# Altium footprint library OperacionesLogicasPCB_L.PcbLib: 10 footprints
Each footprint in its own frame and in the unit in brackets; x right, y up, seen from the top. Pads: shape width x height; smd on the part's side, far side on the other; paste and mask are expansions set on the pad; w line width, h text height; cw(c..) or ccw(c..) is an arc to the next point about the centre after c.
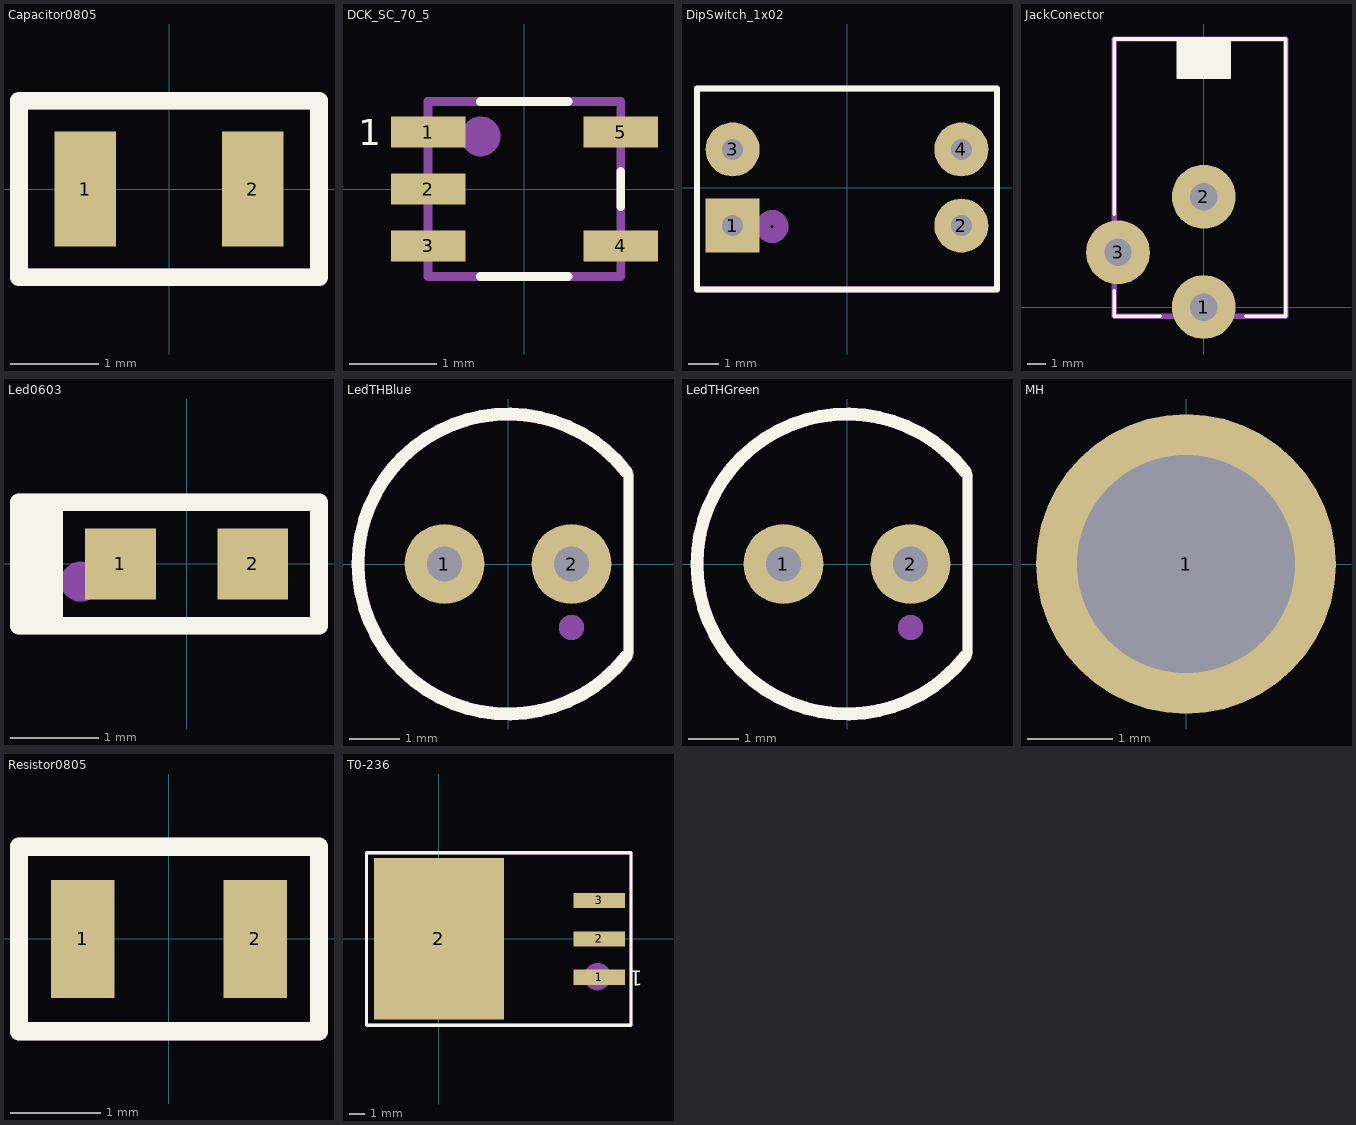
[diagram p0: the footprints below, top view; thin cyan lines are the x and y axes]

## Capacitor0805 [mm]
pads (2):
  rect 0.7x1.3 smd: 1(-0.95,0) 2(0.95,0)
Top Overlay:
  lines w0.2: -1.7,-1 1.7,-1 1.7,1 -1.7,1 -1.7,-1
Mechanical 29:
  lines w0.2: -1.7,-1 1.7,-1 1.7,1 -1.7,1 -1.7,-1
  text "'.Designator'" at -1.6,-0.2 h0.5
3D body "CAP0805.step": height 1.25, standoff 0, extent -1,-0.625 1,0.625

## DCK_SC_70_5 [mm]
pads (5):
  rect 0.85x0.35 smd: 1(-1.1,0.65) 2(-1.1,0) 3(-1.1,-0.65) 4(1.1,-0.65) 5(1.1,0.65)
Top Overlay:
  lines w0.1: -0.5,-1 0.5,-1 ; -0.5,1 0.5,1 ; 1.1,-0.2 1.1,0.2
  text "1" at -1.9,0.5 h0.3
Mechanical 29:
  circle w0.254: c-0.5,0.6 r0.1
  lines w0.1: -1.1,-1 1.1,-1 1.1,1 -1.1,1 -1.1,-1
  text "'.Designator'" at -2,-0.3 h0.5
3D body "DCK_SC70-5.STEP": height 0.91, standoff -0.06, extent -1.1,-1 1.1,1

## DipSwitch_1x02 [mm]
pads (4):
  rect 1.8x1.8 hole 0.7: 1(-3.81,-1.27)
  round 1.8 hole 0.7: 2(3.81,-1.27) 3(-3.81,1.27) 4(3.81,1.27)
Top Overlay:
  lines w0.2: -5,-3.4 -5,3.3 5,3.3 5,-3.4 -5,-3.4
Mechanical 29:
  circle w0.5: c-2.5,-1.3 r0.3
  lines w0.2: -5,-3.4 -5,3.3 5,3.3 5,-3.4 -5,-3.4
  text "'.Designator'" at 0.3,-4.2 h1
3D body "DipSwitch_02p.step": height 6.8, standoff -3.85, extent -4.95,-3.27 4.95,3.27

## JackConector [mm]
pads (3):
  round 3.5 hole 1.5: 1(0,0) 2(0,6.05) 3(-4.7,3)
Top Overlay:
  rectangle: -1.5,12.5 1.5,14.7
  lines w0.2: -4.9,0.9 -4.9,-0.5 -2.4,-0.5 ; -4.9,5.1 -4.9,14.7 4.5,14.7 4.5,-0.5 2.3,-0.5
Mechanical 1:
  lines w0.2: -4.9,-0.5 4.5,-0.5 4.5,14.7 -4.9,14.7 -4.9,-0.5
Mechanical 29:
  lines w0.3: -4.9,-0.5 -4.9,14.7 4.5,14.7 4.5,-0.5 -4.9,-0.5
  text "'.Designator'" at -2.9,5.3 h1
3D body "JackConectorDC.step": height 11.01, standoff -3.49, extent -4.9,-0.5 4.5,14.7

## Led0603 [mm]
pads (2):
  rect 0.8x0.8 smd: 1(-0.75,0) 2(0.75,0)
Top Overlay:
  rectangle: -1.9,-0.7 -1.4,0.7
  lines w0.2: -1.9,-0.7 1.5,-0.7 1.5,0.7 -1.9,0.7 -1.9,-0.7
Mechanical 29:
  circle w0.254: c-1.2,-0.2 r0.1
  lines w0.2: -1.9,-0.7 1.5,-0.7 1.5,0.7 -1.9,0.7 -1.9,-0.7
  text "'.Designator'" at -1.9,-0.3 h0.8
3D body "LedSMD0603G.step": height 0.81, standoff -0.02, extent -0.83,-0.4 0.83,0.4

## LedTHBlue [mm]
pads (2):
  round 1.6 hole 0.7: 1(-1.27,0) 2(1.27,0)
Top Overlay:
  lines w0.2: 2.413,-1.778 2.413,1.778
  lines w0.254: 2.364,-1.847 cw(c0,0) 2.364,1.847
Mechanical 29:
  circle w0.254: c1.27,-1.27 r0.127
  lines w0.2: 2.413,-1.778 2.413,1.778
  lines w0.254: 2.362,-1.845 cw(c0,0) 2.362,1.845
  text "'.Designator'" at -3.302,-0.127 h1
3D body "Led5mmB.step": height 8.72, standoff -2.98, extent -2.9,-2.9 2.5,2.9

## LedTHGreen [mm]
pads (2):
  round 1.6 hole 0.7: 1(-1.27,0) 2(1.27,0)
Top Overlay:
  lines w0.2: 2.413,-1.778 2.413,1.778
  lines w0.254: 2.364,-1.847 cw(c0,0) 2.364,1.847
Mechanical 29:
  circle w0.254: c1.27,-1.27 r0.127
  lines w0.2: 2.413,-1.778 2.413,1.778
  lines w0.254: 2.362,-1.845 cw(c0,0) 2.362,1.845
  text "'.Designator'" at -3.302,-0.127 h1
3D body "LED5mmG.step": height 8.72, standoff -2.98, extent -2.9,-2.9 2.5,2.9

## MH [mm]
pads (1):
  round 3.5 hole 2.54 unplated: 1(0,0)

## Resistor0805 [mm]
pads (2):
  rect 0.7x1.3 smd: 1(-0.95,0) 2(0.95,0)
Top Overlay:
  lines w0.2: -1.651,-1.016 -1.651,1.016 1.651,1.016 1.651,-1.016 -1.651,-1.016
Mechanical 29:
  lines w0.2: -1.651,-1.016 -1.651,1.016 1.651,1.016 1.651,-1.016 -1.651,-1.016
  text "'.Designator'" at -2.921,-0.254 h0.8
3D body "Resistor0805.step": height 0.44, standoff -0.02, extent -1,-0.63 1,0.63

## T0-236 [mm]
pads (4):
  rect 3.4x1 smd: 1(10.6,-2.54) 2(10.6,0) 3(10.6,2.54)
  rect 8.6x10.7 smd: 2(0,0)
Top Overlay:
  lines w0.2: -4.8,-5.715 -4.8,5.7 12.7,5.7 12.7,-5.715 -4.8,-5.715
  text "1" at 13.5,-2.1 h1
Mechanical 29:
  circle w0.8: c10.5,-2.5 r0.5
  lines w0.2: -4.8,-5.7 -4.8,5.7 12.7,5.7 12.7,-5.7 -4.8,-5.7
  text "'.Designator'" at 0.4,0 h1
3D body "TO263.STEP": height 5.18, standoff 0.38, extent -3.475,-5 12.195,5